# Altium footprint library SW-SMD_MSK12CO2_2022-02-25.PcbLib: 1 footprints
Each footprint in its own frame and in the unit in brackets; x right, y up, seen from the top. Pads: shape width x height; smd on the part's side, far side on the other; paste and mask are expansions set on the pad; w line width, h text height; cw(c..) or ccw(c..) is an arc to the next point about the centre after c.
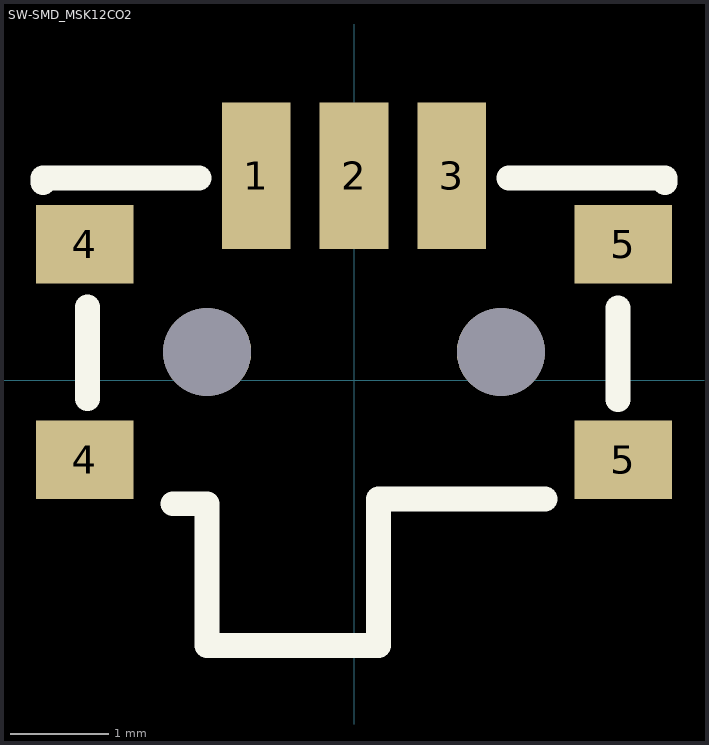
[diagram p0: the footprint, top view; thin cyan lines are the x and y axes]

## SW-SMD_MSK12CO2 [mm]
pads (9):
  rect 0.7x1.5 smd: 1(-1,2.089) 2(0,2.089) 3(1,2.089)
  rect 1x0.8 smd: 4(-2.75,-0.812) 4(-2.75,1.389) 5(2.75,-0.812) 5(2.75,1.388)
  round 0.9 hole 0.9 unplated: ""(-1.5,0.288) ""(1.5,0.288)
Top Overlay:
  lines w0.254: -3.175,2.02 -3.175,2.066 -1.582,2.066 ; -2.723,-0.19 -2.723,0.748 ; -1.85,-1.262 -1.5,-1.262 -1.5,-2.712 0.25,-2.712 0.25,-1.212 1.95,-1.212 ; 1.581,2.067 3.175,2.067 3.175,2.02 ; 2.695,-0.199 2.695,0.739